# EAGLE library part RADIO_NRF24L1 (library TD-MySensors)
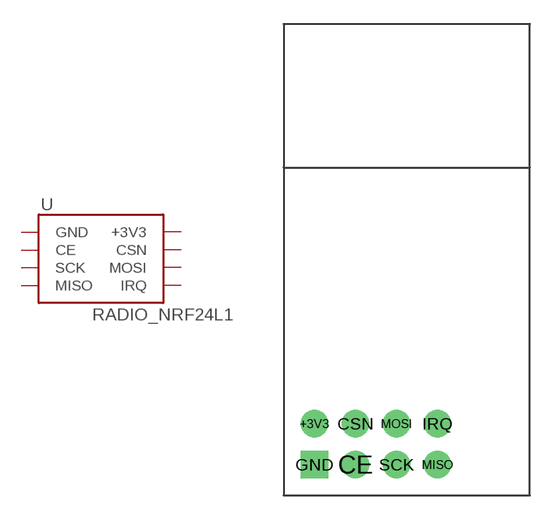
[diagram p0: symbol with the pads of NRF24L1; footprint NRF24L1]

Designator prefix U

## RADIO_NRF24L1  [NRF24L1]
+3V3  +3V3  pwr
CE  CE
CSN  CSN
GND  GND  pwr
IRQ  IRQ
MISO  MISO
MOSI  MOSI
SCK  SCK

## Footprint NRF24L1 (pad centres in mm)
drill 1.016 pad 1.676: +3V3 -5.715,-9.525; CE -3.175,-12.065; CSN -3.175,-9.525; IRQ 1.905,-9.525; MISO 1.905,-12.065; MOSI -0.635,-9.525; SCK -0.635,-12.065
drill 1.016 pad 1.676 square: GND -5.715,-12.065